# EAGLE library part TEXAS_INSTRUMENTS_CPU_AM3354_ZCZ_324 (library Module_ICs)
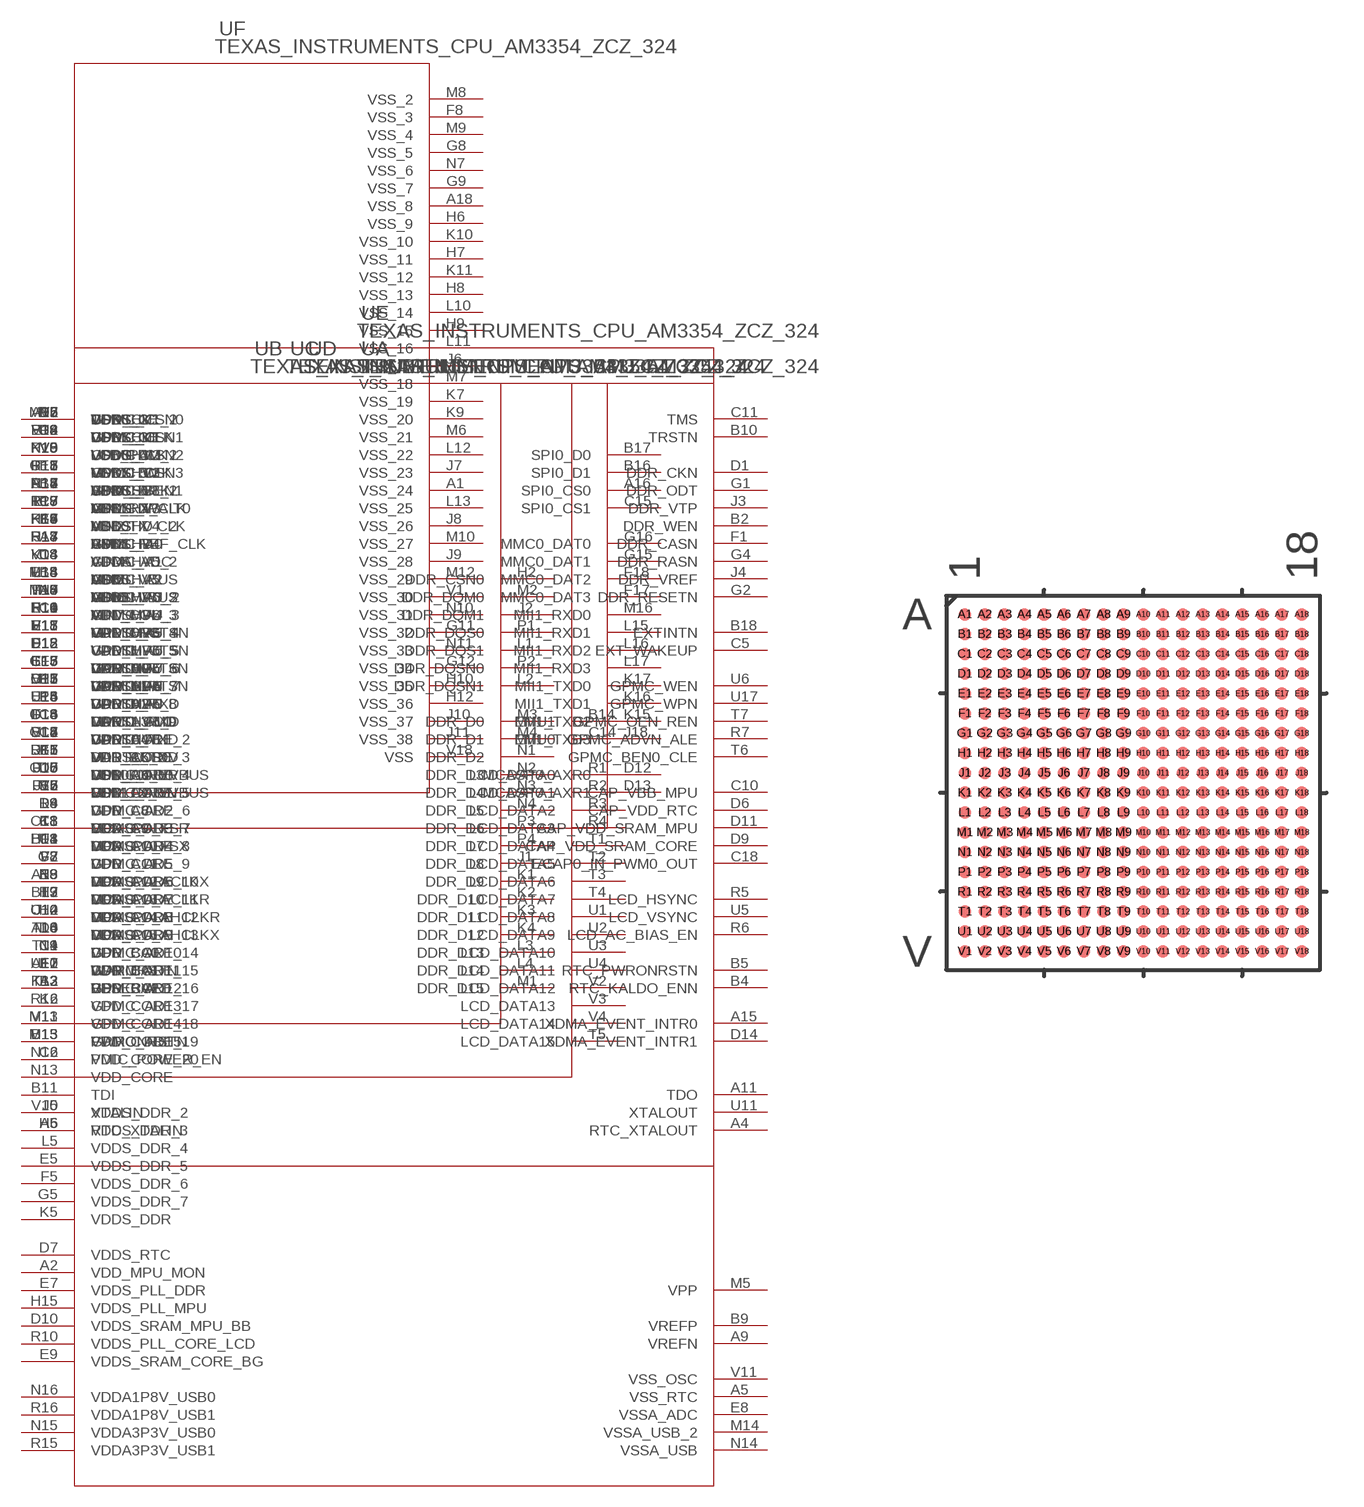
[diagram p25: symbol with the pads of TEXAS_INSTRUMENTS_CPU_AM3354_ZCZ_324; footprint TEXAS_INSTRUMENTS_CPU_AM3354_ZCZ_324]

Designator prefix U; gates A=AM3354_ZCZ_324_A B=AM3354_ZCZ_324_B C=AM3354_ZCZ_324_C D=AM3354_ZCZ_324_D E=AM3354_ZCZ_324_00 F=AM3354_ZCZ_324

## TEXAS_INSTRUMENTS_CPU_AM3354_ZCZ_324 (DATASHEETURL: httpwww.ti.comlitgpnAM3354; FAMILY_NAME: ARM335x ARM CortexA8; GENERIC_PART_NUMBER: AM3354; INDUSTRY_STD_PKG_TYPE: NFBGA; MANUFACTURER: Texas Instruments; PACKAGE_DESIGNATOR: ZCZ; PIN_COUNT: 324)  [TEXAS_INSTRUMENTS_CPU_AM3354_ZCZ_324]
A1  F:VSS_24  pwr
A2  E:VDD_MPU_MON  pwr
A3  A:RESERVED  pas
A4  A:RTC_XTALOUT  pas
A5  E:VSS_RTC  pwr
A6  A:RTC_XTALIN  pas
A7  B:AIN3  pas
A8  B:AIN6  pas
A9  E:VREFN  pwr
A10  A:WARMRSTN  pas
A11  A:TDO  pas
A12  A:TCK  pas
A13  A:MCASP0_ACLKX  pas
A14  A:MCASP0_AHCLKX  pas
A15  A:XDMA_EVENT_INTR0  pas
A16  D:SPI0_CS0  pas
A17  A:SPI0_SCLK  pas
A18  F:VSS_8  pwr
B1  B:DDR_A5  pas
B2  A:DDR_WEN  pas
B3  B:DDR_BA2  pas
B4  A:RTC_KALDO_ENN  pas
B5  A:RTC_PWRONRSTN  pas
B6  B:AIN0  pas
B7  B:AIN2  pas
B8  B:AIN5  pas
B9  E:VREFP  pwr
B10  A:TRSTN  pas
B11  A:TDI  pas
B12  A:MCASP0_ACLKR  pas
B13  A:MCASP0_FSX  pas
B14  C:EMU1  pas
B15  A:PWRONRSTN  pas
B16  D:SPI0_D1  pas
B17  D:SPI0_D0  pas
B18  A:EXTINTN  pas
C1  B:DDR_A9  pas
C2  B:DDR_A4  pas
C3  B:DDR_A3  pas
C4  B:DDR_BA0  pas
C5  A:EXT_WAKEUP  pas
C6  A:PMIC_POWER_EN  pas
C7  B:AIN1  pas
C8  B:AIN4  pas
C9  B:AIN7  pas
C10  A:CAP_VBB_MPU  pas
C11  A:TMS  pas
C12  A:MCASP0_AHCLKR  pas
C13  A:MCASP0_FSR  pas
C14  C:EMU0  pas
C15  D:SPI0_CS1  pas
C16  A:I2C0_SCL  pas
C17  A:I2C0_SDA  pas
C18  A:ECAP0_IN_PWM0_OUT  pas
D1  A:DDR_CKN  pas
D2  B:DDR_CK  pas
D3  B:DDR_A15  pas
D4  B:DDR_A8  pas
D5  B:DDR_A6  pas
D6  A:CAP_VDD_RTC  pwr
D7  E:VDDS_RTC  pwr
D8  E:VDDA_ADC  pwr
D9  A:CAP_VDD_SRAM_CORE  pwr
D10  E:VDDS_SRAM_MPU_BB  pas
D11  A:CAP_VDD_SRAM_MPU  pas
D12  D:MCASP0_AXR0  pas
D13  D:MCASP0_AXR1  pas
D14  A:XDMA_EVENT_INTR1  pas
D15  D:UART1_TXD  pas
D16  D:UART1_RXD  pas
D17  D:UART1_RTSN  pas
D18  D:UART1_CTSN  pas
E1  B:DDR_BA1  pas
E2  B:DDR_A7  pas
E3  B:DDR_A12  pas
E4  B:DDR_A2  pas
E5  E:VDDS_DDR_5  pwr
E6  E:VDDS_5  pwr
E7  E:VDDS_PLL_DDR  pwr
E8  E:VSSA_ADC  pwr
E9  E:VDDS_SRAM_CORE_BG  pwr
E10  F:VDDSHV6_3  pwr
E11  F:VDDSHV6_4  pwr
E12  F:VDDSHV6_5  pwr
E13  F:VDDSHV6_6  pwr
E14  E:VDDS_3  pwr
E15  D:UART0_RXD  pas
E16  D:UART0_TXD  pas
E17  D:UART0_RTSN  pas
E18  D:UART0_CTSN  pas
F1  A:DDR_CASN  pas
F2  B:DDR_A11  pas
F3  B:DDR_A0  pas
F4  B:DDR_A10  pas
F5  E:VDDS_DDR_6  pwr
F6  E:VDD_CORE_3  pwr
F7  E:VDD_CORE_15  pwr
F8  F:VSS_3  pwr
F9  E:VDDS  pwr
F10  E:VDD_MPU_2  pwr
F11  E:VDD_MPU_3  pwr
F12  E:VDD_MPU_5  pwr
F13  E:VDD_MPU_4  pwr
F14  F:VDDSHV6_9  pwr
F15  D:USB1_DRVVBUS  pas
F16  D:USB0_DRVVBUS  pas
F17  D:MMC0_DAT3  pas
F18  D:MMC0_DAT2  pas
G1  A:DDR_ODT  pas
G2  A:DDR_RESETN  pas
G3  B:DDR_CKE  pas
G4  A:DDR_RASN  pas
G5  E:VDDS_DDR_7  pwr
G6  E:VDD_CORE_5  pwr
G7  E:VDD_CORE_9  pwr
G8  F:VSS_5  pwr
G9  F:VSS_7  pwr
G10  E:VDD_CORE_4  pwr
G11  F:VSS_32  pwr
G12  F:VSS_34  pwr
G13  E:VDD_MPU_6  pwr
G14  F:VDDSHV6  pwr
G15  D:MMC0_DAT1  pas
G16  D:MMC0_DAT0  pas
G17  A:MMC0_CLK  pas
G18  A:MMC0_CMD  pas
H1  B:DDR_A1  pas
H2  B:DDR_CSN0  pas
H3  B:DDR_A13  pas
H4  B:DDR_A14  pas
H5  E:VDDS_DDR_3  pwr
H6  F:VSS_9  pwr
H7  F:VSS_11  pwr
H8  F:VSS_13  pwr
H9  F:VSS_15  pwr
H10  F:VSS_35  pwr
H11  E:VDD_CORE_8  pwr
H12  F:VSS_36  pwr
H13  E:VDD_MPU_7  pwr
H14  F:VDDSHV4_2  pwr
H15  E:VDDS_PLL_MPU  pwr
H16  A:MII1_COL  pas
H17  A:MII1_CRS  pas
H18  A:RMII1_REF_CLK  pas
J1  B:DDR_D8  pas
J2  B:DDR_DQM1  pas
J3  A:DDR_VTP  pas
J4  A:DDR_VREF  pas
J5  E:VDDS_DDR_2  pwr
J6  F:VSS_17  pwr
J7  F:VSS_23  pwr
J8  F:VSS_26  pwr
J9  F:VSS_28  pwr
J10  F:VSS_37  pwr
J11  F:VSS_38  pwr
J12  E:VDD_CORE_12  pwr
J13  E:VDD_MPU  pwr
J14  F:VDDSHV4  pwr
J15  A:MII1_RX_ER  pas
J16  A:MII1_TX_EN  pas
J17  A:MII1_RX_DV  pas
J18  D:MII1_TXD3  pas
K1  B:DDR_D9  pas
K2  B:DDR_D10  pas
K3  B:DDR_D11  pas
K4  B:DDR_D12  pas
K5  E:VDDS_DDR  pwr
K6  E:VDD_CORE_17  pwr
K7  F:VSS_19  pwr
K8  E:VDD_CORE_7  pwr
K9  F:VSS_20  pwr
K10  F:VSS_10  pwr
K11  F:VSS_12  pwr
K12  E:VDD_CORE_16  pwr
K13  E:VDDS_4  pwr
K14  F:VDDSHV5_2  pwr
K15  D:MII1_TXD2  pas
K16  D:MII1_TXD1  pas
K17  D:MII1_TXD0  pas
K18  A:MII1_TX_CLK  pas
L1  B:DDR_DQS1  pas
L2  B:DDR_DQSN1  pas
L3  B:DDR_D13  pas
L4  B:DDR_D14  pas
L5  E:VDDS_DDR_4  pwr
L6  E:VDD_CORE_13  pwr
L7  E:VDD_CORE_11  pwr
L8  E:VDD_CORE_2  pwr
L9  E:VDD_CORE_6  pwr
L10  F:VSS_14  pwr
L11  F:VSS_16  pwr
L12  F:VSS_22  pwr
L13  F:VSS_25  pwr
L14  F:VDDSHV5  pwr
L15  D:MII1_RXD1  pas
L16  D:MII1_RXD2  pas
L17  D:MII1_RXD3  pas
L18  A:MII1_RX_CLK  pas
M1  B:DDR_D15  pas
M2  B:DDR_DQM0  pas
M3  B:DDR_D0  pas
M4  B:DDR_D1  pas
M5  E:VPP  pwr
M6  F:VSS_21  pwr
M7  F:VSS_18  pwr
M8  F:VSS_2  pwr
M9  F:VSS_4  pwr
M10  F:VSS_27  pwr
M11  E:VDD_CORE_18  pwr
M12  F:VSS_29  pwr
M13  E:VDD_CORE_19  pwr
M14  E:VSSA_USB_2  pwr
M15  D:USB0_CE  pas
M16  D:MII1_RXD0  pas
M17  A:MDIO  pas
M18  A:MDC  pas
N1  B:DDR_D2  pas
N2  B:DDR_D3  pas
N3  B:DDR_D4  pas
N4  B:DDR_D5  pas
N5  F:VDDSHV6_2  pwr
N6  E:VDDS_2  pwr
N7  F:VSS_6  pwr
N8  E:VDD_CORE_10  pwr
N9  E:VDD_CORE_14  pwr
N10  F:VSS_31  pwr
N11  F:VSS_33  pwr
N12  E:VDD_CORE_20  pwr
N13  E:VDD_CORE  pwr
N14  E:VSSA_USB  pwr
N15  E:VDDA3P3V_USB0  pwr
N16  E:VDDA1P8V_USB0  pwr
N17  D:USB0_DP  pas
N18  D:USB0_DM  pas
P1  B:DDR_DQS0  pas
P2  B:DDR_DQSN0  pas
P3  B:DDR_D6  pas
P4  B:DDR_D7  pas
P5  F:VDDSHV6_7  pwr
P6  F:VDDSHV6_8  pwr
P7  F:VDDSHV1_2  pwr
P8  F:VDDSHV1  pwr
P9  E:VDDS_7  pwr
P10  F:VDDSHV2_2  pwr
P11  F:VDDSHV2  pwr
P12  F:VDDSHV3_2  pwr
P13  F:VDDSHV3  pwr
P14  E:VDDS_6  pwr
P15  D:USB0_VBUS  pas
P16  D:USB0_ID  pas
P17  D:USB1_ID  pas
P18  D:USB1_CE  pas
R1  C:LCD_DATA0  pas
R2  C:LCD_DATA1  pas
R3  C:LCD_DATA2  pas
R4  C:LCD_DATA3  pas
R5  A:LCD_HSYNC  pas
R6  A:LCD_AC_BIAS_EN  pas
R7  A:GPMC_ADVN_ALE  pas
R8  C:GPMC_AD2  pas
R9  C:GPMC_AD6  pas
R10  E:VDDS_PLL_CORE_LCD  pwr
R11  F:VDDS_OSC  pwr
R12  C:GPMC_AD13  pas
R13  C:GPMC_A0  pas
R14  C:GPMC_A4  pas
R15  E:VDDA3P3V_USB1  pwr
R16  E:VDDA1P8V_USB1  pwr
R17  D:USB1_DP  pas
R18  D:USB1_DM  pas
T1  C:LCD_DATA4  pas
T2  C:LCD_DATA5  pas
T3  C:LCD_DATA6  pas
T4  C:LCD_DATA7  pas
T5  C:LCD_DATA15  pas
T6  A:GPMC_BEN0_CLE  pas
T7  A:GPMC_OEN_REN  pas
T8  C:GPMC_AD3  pas
T9  C:GPMC_AD7  pas
T10  C:GPMC_AD9  pas
T11  C:GPMC_AD10  pas
T12  C:GPMC_AD12  pas
T13  C:GPMC_CSN3  pas
T14  C:GPMC_A3  pas
T15  C:GPMC_A7  pas
T16  C:GPMC_A10  pas
T17  C:GPMC_WAIT0  pas
T18  D:USB1_VBUS  pas
U1  C:LCD_DATA8  pas
U2  C:LCD_DATA9  pas
U3  C:LCD_DATA10  pas
U4  C:LCD_DATA11  pas
U5  A:LCD_VSYNC  pas
U6  A:GPMC_WEN  pas
U7  C:GPMC_AD0  pas
U8  C:GPMC_AD4  pas
U9  C:GPMC_CSN1  pas
U10  C:GPMC_AD8  pas
U11  A:XTALOUT  pas
U12  C:GPMC_AD11  pas
U13  C:GPMC_AD15  pas
U14  C:GPMC_A2  pas
U15  C:GPMC_A6  pas
U16  C:GPMC_A9  pas
U17  A:GPMC_WPN  pas
U18  C:GPMC_BEN1  pas
V1  F:VSS_30  pwr
V2  C:LCD_DATA12  pas
V3  C:LCD_DATA13  pas
V4  C:LCD_DATA14  pas
V5  A:LCD_PCLK  pas
V6  C:GPMC_CSN0  pas
V7  C:GPMC_AD1  pas
V8  C:GPMC_AD5  pas
V9  C:GPMC_CSN2  pas
V10  A:XTALIN  pas
V11  E:VSS_OSC  pwr
V12  A:GPMC_CLK  pas
V13  C:GPMC_AD14  pas
V14  C:GPMC_A1  pas
V15  C:GPMC_A5  pas
V16  C:GPMC_A8  pas
V17  C:GPMC_A11  pas
V18  F:VSS  pwr

## Footprint TEXAS_INSTRUMENTS_CPU_AM3354_ZCZ_324 (pad centres in mm)
smd 0.508 x 0.508: A1 -6.8,6.8; A2 -6,6.8; A3 -5.2,6.8; A4 -4.4,6.8; A5 -3.6,6.8; A6 -2.8,6.8; A7 -2,6.8; A8 -1.2,6.8; A9 -0.4,6.8; A10 0.4,6.8; A11 1.2,6.8; A12 2,6.8; A13 2.8,6.8; A14 3.6,6.8; A15 4.4,6.8; A16 5.2,6.8; A17 6,6.8; A18 6.8,6.8; B1 -6.8,6; B2 -6,6; B3 -5.2,6; B4 -4.4,6; B5 -3.6,6; B6 -2.8,6; B7 -2,6; B8 -1.2,6; B9 -0.4,6; B10 0.4,6; B11 1.2,6; B12 2,6; B13 2.8,6; B14 3.6,6; B15 4.4,6; B16 5.2,6; B17 6,6; B18 6.8,6; C1 -6.8,5.2; C2 -6,5.2; C3 -5.2,5.2; C4 -4.4,5.2; C5 -3.6,5.2; C6 -2.8,5.2; C7 -2,5.2; C8 -1.2,5.2; C9 -0.4,5.2; C10 0.4,5.2; C11 1.2,5.2; C12 2,5.2; C13 2.8,5.2; C14 3.6,5.2; C15 4.4,5.2; C16 5.2,5.2; C17 6,5.2; C18 6.8,5.2; D1 -6.8,4.4; D2 -6,4.4; D3 -5.2,4.4; D4 -4.4,4.4; D5 -3.6,4.4; D6 -2.8,4.4; D7 -2,4.4; D8 -1.2,4.4; D9 -0.4,4.4; D10 0.4,4.4; D11 1.2,4.4; D12 2,4.4; D13 2.8,4.4; D14 3.6,4.4; D15 4.4,4.4; D16 5.2,4.4; D17 6,4.4; D18 6.8,4.4; E1 -6.8,3.6; E2 -6,3.6; E3 -5.2,3.6; E4 -4.4,3.6; E5 -3.6,3.6; E6 -2.8,3.6; E7 -2,3.6; E8 -1.2,3.6; E9 -0.4,3.6; E10 0.4,3.6; E11 1.2,3.6; E12 2,3.6; E13 2.8,3.6; E14 3.6,3.6; E15 4.4,3.6; E16 5.2,3.6; E17 6,3.6; E18 6.8,3.6; F1 -6.8,2.8; F2 -6,2.8; F3 -5.2,2.8; F4 -4.4,2.8; F5 -3.6,2.8; F6 -2.8,2.8; F7 -2,2.8; F8 -1.2,2.8; F9 -0.4,2.8; F10 0.4,2.8; F11 1.2,2.8; F12 2,2.8; F13 2.8,2.8; F14 3.6,2.8; F15 4.4,2.8; F16 5.2,2.8; F17 6,2.8; F18 6.8,2.8; G1 -6.8,2; G2 -6,2; G3 -5.2,2; G4 -4.4,2; G5 -3.6,2; G6 -2.8,2; G7 -2,2; G8 -1.2,2; G9 -0.4,2; G10 0.4,2; G11 1.2,2; G12 2,2; G13 2.8,2; G14 3.6,2; G15 4.4,2; G16 5.2,2; G17 6,2; G18 6.8,2; H1 -6.8,1.2; H2 -6,1.2; H3 -5.2,1.2; H4 -4.4,1.2; H5 -3.6,1.2; H6 -2.8,1.2; H7 -2,1.2; H8 -1.2,1.2; H9 -0.4,1.2; H10 0.4,1.2; H11 1.2,1.2; H12 2,1.2; H13 2.8,1.2; H14 3.6,1.2; H15 4.4,1.2; H16 5.2,1.2; H17 6,1.2; H18 6.8,1.2; J1 -6.8,0.4; J2 -6,0.4; J3 -5.2,0.4; J4 -4.4,0.4; J5 -3.6,0.4; J6 -2.8,0.4; J7 -2,0.4; J8 -1.2,0.4; J9 -0.4,0.4; J10 0.4,0.4; J11 1.2,0.4; J12 2,0.4; J13 2.8,0.4; J14 3.6,0.4; J15 4.4,0.4; J16 5.2,0.4; J17 6,0.4; J18 6.8,0.4; K1 -6.8,-0.4; K2 -6,-0.4; K3 -5.2,-0.4; K4 -4.4,-0.4; K5 -3.6,-0.4; K6 -2.8,-0.4; K7 -2,-0.4; K8 -1.2,-0.4; K9 -0.4,-0.4; K10 0.4,-0.4; K11 1.2,-0.4; K12 2,-0.4; K13 2.8,-0.4; K14 3.6,-0.4; K15 4.4,-0.4; K16 5.2,-0.4; K17 6,-0.4; K18 6.8,-0.4; L1 -6.8,-1.2; L2 -6,-1.2; L3 -5.2,-1.2; L4 -4.4,-1.2; L5 -3.6,-1.2; L6 -2.8,-1.2; L7 -2,-1.2; L8 -1.2,-1.2; L9 -0.4,-1.2; L10 0.4,-1.2; L11 1.2,-1.2; L12 2,-1.2; L13 2.8,-1.2; L14 3.6,-1.2; L15 4.4,-1.2; L16 5.2,-1.2; L17 6,-1.2; L18 6.8,-1.2; M1 -6.8,-2; M2 -6,-2; M3 -5.2,-2; M4 -4.4,-2; M5 -3.6,-2; M6 -2.8,-2; M7 -2,-2; M8 -1.2,-2; M9 -0.4,-2; M10 0.4,-2; M11 1.2,-2; M12 2,-2; M13 2.8,-2; M14 3.6,-2; M15 4.4,-2; M16 5.2,-2; M17 6,-2; M18 6.8,-2; N1 -6.8,-2.8; N2 -6,-2.8; N3 -5.2,-2.8; N4 -4.4,-2.8; N5 -3.6,-2.8; N6 -2.8,-2.8; N7 -2,-2.8; N8 -1.2,-2.8; N9 -0.4,-2.8; N10 0.4,-2.8; N11 1.2,-2.8; N12 2,-2.8; N13 2.8,-2.8; N14 3.6,-2.8; N15 4.4,-2.8; N16 5.2,-2.8; N17 6,-2.8; N18 6.8,-2.8; P1 -6.8,-3.6; P2 -6,-3.6; P3 -5.2,-3.6; P4 -4.4,-3.6; P5 -3.6,-3.6; P6 -2.8,-3.6; P7 -2,-3.6; P8 -1.2,-3.6; P9 -0.4,-3.6; P10 0.4,-3.6; P11 1.2,-3.6; P12 2,-3.6; P13 2.8,-3.6; P14 3.6,-3.6; P15 4.4,-3.6; P16 5.2,-3.6; P17 6,-3.6; P18 6.8,-3.6; R1 -6.8,-4.4; R2 -6,-4.4; R3 -5.2,-4.4; R4 -4.4,-4.4; R5 -3.6,-4.4; R6 -2.8,-4.4; R7 -2,-4.4; R8 -1.2,-4.4; R9 -0.4,-4.4; R10 0.4,-4.4; R11 1.2,-4.4; R12 2,-4.4; R13 2.8,-4.4; R14 3.6,-4.4; R15 4.4,-4.4; R16 5.2,-4.4; R17 6,-4.4; R18 6.8,-4.4; T1 -6.8,-5.2; T2 -6,-5.2; T3 -5.2,-5.2; T4 -4.4,-5.2; T5 -3.6,-5.2; T6 -2.8,-5.2; T7 -2,-5.2; T8 -1.2,-5.2; T9 -0.4,-5.2; T10 0.4,-5.2; T11 1.2,-5.2; T12 2,-5.2; T13 2.8,-5.2; T14 3.6,-5.2; T15 4.4,-5.2; T16 5.2,-5.2; T17 6,-5.2; T18 6.8,-5.2; U1 -6.8,-6; U2 -6,-6; U3 -5.2,-6; U4 -4.4,-6; U5 -3.6,-6; U6 -2.8,-6; U7 -2,-6; U8 -1.2,-6; U9 -0.4,-6; U10 0.4,-6; U11 1.2,-6; U12 2,-6; U13 2.8,-6; U14 3.6,-6; U15 4.4,-6; U16 5.2,-6; U17 6,-6; U18 6.8,-6; V1 -6.8,-6.8; V2 -6,-6.8; V3 -5.2,-6.8; V4 -4.4,-6.8; V5 -3.6,-6.8; V6 -2.8,-6.8; V7 -2,-6.8; V8 -1.2,-6.8; V9 -0.4,-6.8; V10 0.4,-6.8; V11 1.2,-6.8; V12 2,-6.8; V13 2.8,-6.8; V14 3.6,-6.8; V15 4.4,-6.8; V16 5.2,-6.8; V17 6,-6.8; V18 6.8,-6.8